# EAGLE library part GWF-3M08_NRE (library boil_buddy)
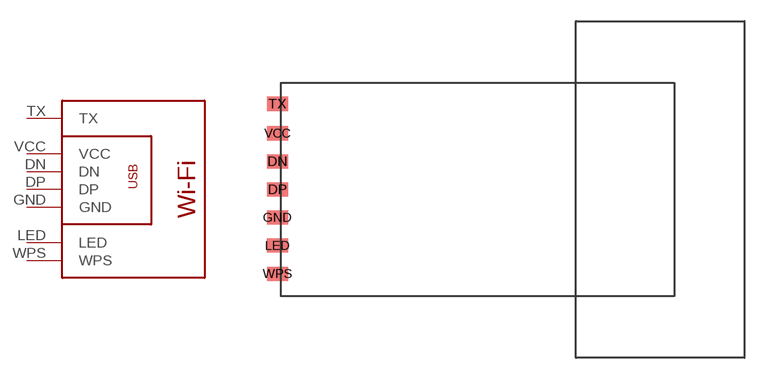
[diagram p3: symbol with the pads of GWF-3M08; footprint GWF-3M08]

Designator prefix -

## GWF-3M08_NRE  [GWF-3M08]
DN  DN
DP  DP
GND  GND
LED  LED
TX  TX
VCC  VCC
WPS  WPS

## Footprint GWF-3M08 (pad centres in mm)
smd 1.5 x 1: DN -0.25,9.6; DP -0.25,7.6; GND -0.25,5.6; LED -0.25,3.6; TX -0.25,13.7; VCC -0.25,11.6; WPS -0.25,1.6